# Altium footprint library PcbLib1.PcbLib: 218 footprints (part 5 of 14)
Each footprint in its own frame and in the unit in brackets; x right, y up, seen from the top. Pads: shape width x height; smd on the part's side, far side on the other; paste and mask are expansions set on the pad; w line width, h text height; cw(c..) or ccw(c..) is an arc to the next point about the centre after c.
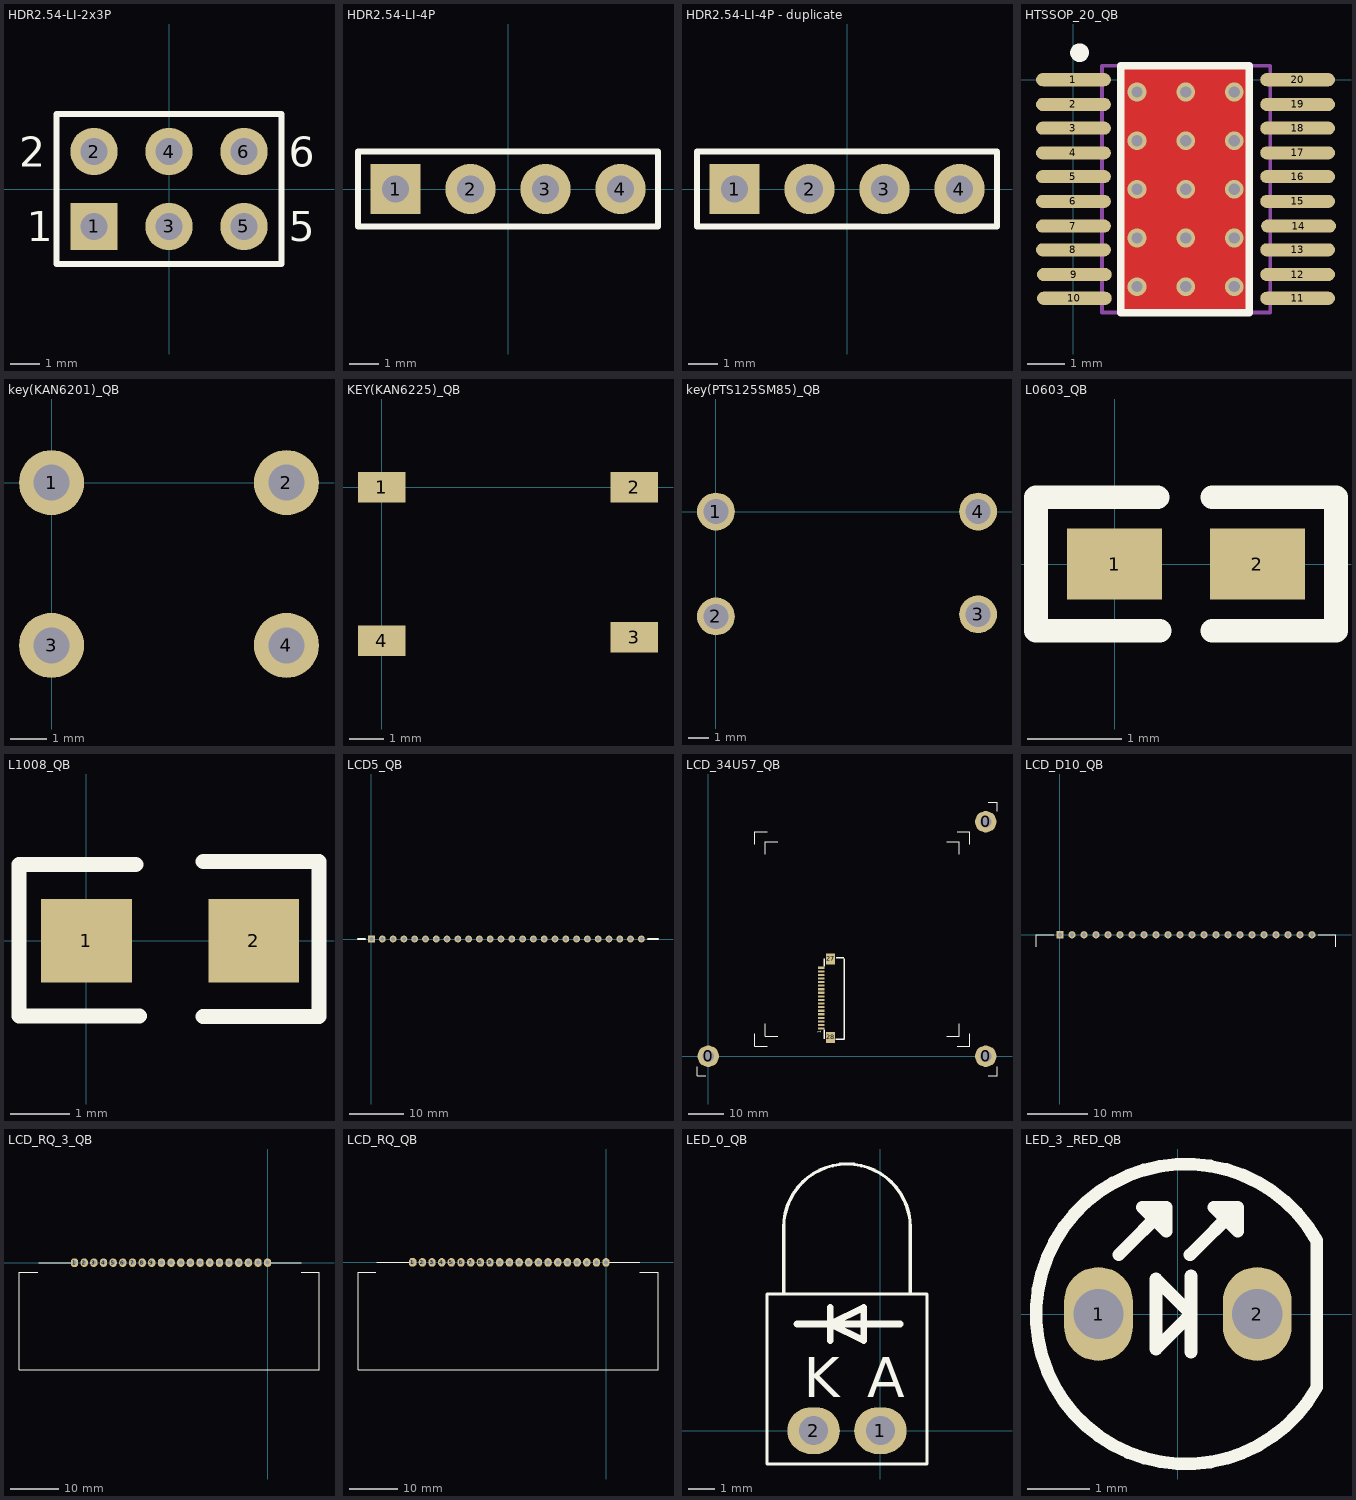
[diagram p4: the footprints below, top view; thin cyan lines are the x and y axes]

## HDR2.54-LI-2x3P [mm] "双排排针，3x2脚"
pads (6):
  rect 1.6x1.6 hole 0.9: 1(-2.54,-1.27)
  round 1.6 hole 0.9: 2(-2.54,1.27) 3(0,-1.27) 4(0,1.27) 5(2.54,-1.27) 6(2.54,1.27)
Top Overlay:
  lines w0.2: -1.058,-2.54 3.81,-2.54 ; 3.81,-2.54 3.81,2.54 -3.81,2.54 -3.81,-2.54 3.81,-2.54
  text "6" at 4.064,0.762 h1.02
  text "5" at 4.064,-1.778 h1.02
  text "2" at -5.08,0.762 h1.02
  text "1" at -4.826,-1.778 h1.02
3D body "HDR2.54-1x2P.STEP": height 8.5, standoff -3, extent 1.27,-2.54 3.81,2.54
3D body "HDR2.54-1x2P.STEP": height 8.5, standoff -3, extent -3.81,-2.54 -1.27,2.54
3D body "HDR2.54-1x2P.STEP": height 8.5, standoff -3, extent -1.27,-2.54 1.27,2.54

## HDR2.54-LI-4P [mm] "排针，4脚"
pads (4):
  rect 1.7x1.7 hole 0.9: 1(-3.81,0)
  round 1.7 hole 0.9: 2(-1.27,0) 3(1.27,0) 4(3.81,0)
Top Overlay:
  lines w0.2: -5.08,-1.27 -5.08,1.27 5.08,1.27 5.08,-1.27 -5.08,-1.27
3D body "HDR2.54-1P.STEP": height 8.5, standoff -3, extent -5.08,-1.27 -2.54,1.27
3D body "HDR2.54-1P.STEP": height 8.5, standoff -3, extent -2.54,-1.27 0,1.27
3D body "HDR2.54-1P.STEP": height 8.5, standoff -3, extent 0,-1.27 2.54,1.27
3D body "HDR2.54-1P.STEP": height 8.5, standoff -3, extent 2.54,-1.27 5.08,1.27

## HDR2.54-LI-4P - duplicate [mm] "排针，4脚"
pads (4):
  rect 1.7x1.7 hole 0.9: 1(-3.81,0)
  round 1.7 hole 0.9: 2(-1.27,0) 3(1.27,0) 4(3.81,0)
Top Overlay:
  lines w0.2: -5.08,-1.27 -5.08,1.27 5.08,1.27 5.08,-1.27 -5.08,-1.27
3D body "HDR2.54-1P.STEP": height 8.5, standoff -3, extent -5.08,-1.27 -2.54,1.27
3D body "HDR2.54-1P.STEP": height 8.5, standoff -3, extent -2.54,-1.27 0,1.27
3D body "HDR2.54-1P.STEP": height 8.5, standoff -3, extent 0,-1.27 2.54,1.27
3D body "HDR2.54-1P.STEP": height 8.5, standoff -3, extent 2.54,-1.27 5.08,1.27

## HTSSOP_20_QB [mm]
height 1.2
pads (20):
  oval 2x0.35 smd: 1(0,0) 2(0,-0.66) 3(0,-1.295) 4(0,-1.956) 5(0,-2.591) 6(0,-3.251) 7(0,-3.912) 8(0,-4.547) 9(0.025,-5.207) 10(0.025,-5.842) 11(5.994,-5.842) 12(5.994,-5.207) 13(5.994,-4.547) 14(6.02,-3.912) 15(5.994,-3.251) 16(5.994,-2.591) 17(5.994,-1.956) 18(5.994,-1.295) 19(5.994,-0.66) 20(5.994,0)
via 1.702,-0.33 diameter 0.5 hole 0.3
via 1.702,-5.53 diameter 0.5 hole 0.3
via 4.302,-5.53 diameter 0.5 hole 0.3
via 4.302,-4.23 diameter 0.5 hole 0.3
via 4.302,-2.93 diameter 0.5 hole 0.3
via 4.302,-1.63 diameter 0.5 hole 0.3
via 4.302,-0.33 diameter 0.5 hole 0.3
via 3.002,-5.53 diameter 0.5 hole 0.3
via 3.002,-4.23 diameter 0.5 hole 0.3
via 3.002,-2.93 diameter 0.5 hole 0.3
via 3.002,-1.63 diameter 0.5 hole 0.3
via 3.002,-0.33 diameter 0.5 hole 0.3
via 1.702,-4.23 diameter 0.5 hole 0.3
via 1.702,-2.93 diameter 0.5 hole 0.3
via 1.702,-1.63 diameter 0.5 hole 0.3
Top Layer:
  region: 1.31,0.33 1.31,-6.17 4.71,-6.17 4.71,0.33
Top Overlay:
  circle w0.25: c0.164,0.725 r0.125
  lines w0.2: 1.27,-6.225 4.699,-6.225 4.699,0.375 1.27,0.375 1.27,-6.225
Mechanical 13:
  circle w0.1: c1.714,-0.575 r0.5
  lines w0.1: 0.764,-6.225 5.264,-6.225 5.264,0.375 0.764,0.375 0.764,-6.225
Mechanical 15:
  lines w0.1: 2.514,-3.13 3.514,-3.13 ; 2.802,-3.425 2.802,-2.425
3D body: height 0.5, standoff 0, extent 4.855,-0.156 6.1,0.148
3D body: height 0.5, standoff 0, extent 4.855,-0.791 6.1,-0.487
3D body: height 0.5, standoff 0, extent 4.855,-1.452 6.1,-1.147
3D body: height 0.5, standoff 0, extent 4.855,-2.112 6.1,-1.807
3D body: height 0.5, standoff 0, extent 4.855,-2.747 6.1,-2.442
3D body: height 0.5, standoff 0, extent 4.881,-3.408 6.125,-3.103
3D body: height 0.5, standoff 0, extent 4.855,-4.043 6.1,-3.738
3D body: height 0.5, standoff 0, extent 4.855,-4.703 6.1,-4.398
3D body: height 0.5, standoff 0, extent 4.855,-5.338 6.1,-5.033
3D body: height 0.5, standoff 0, extent 4.855,-5.998 6.1,-5.694
3D body: height 0.5, standoff 0, extent -0.072,-5.998 1.172,-5.693
3D body: height 0.5, standoff 0, extent -0.072,-5.363 1.172,-5.059
3D body: height 0.5, standoff 0, extent -0.072,-4.703 1.172,-4.398
3D body: height 0.5, standoff 0, extent -0.072,-4.042 1.172,-3.738
3D body: height 0.5, standoff 0, extent -0.098,-3.382 1.147,-3.077
3D body: height 0.5, standoff 0, extent -0.072,-2.747 1.172,-2.442
3D body: height 0.5, standoff 0, extent -0.072,-2.087 1.172,-1.782
3D body: height 0.5, standoff 0, extent -0.098,-1.452 1.147,-1.147
3D body: height 0.5, standoff 0, extent -0.123,-0.791 1.121,-0.487
3D body: height 0.5, standoff 0, extent -0.123,-0.156 1.121,0.148
3D body: height 1.2, standoff 0.1, extent 0.764,-6.225 5.264,0.375

## key(KAN6201)_QB [mm]
pads (4):
  round 1.8 hole 1: 1(0,0) 2(6.5,0) 3(0,-4.5) 4(6.5,-4.5)
3D body: height 9, standoff 3.5, extent 1.542,-3.965 5.028,-0.472
3D body: height 3.5, standoff 0, extent 0.163,-5.34 6.171,0.671

## KEY(KAN6225)_QB [mm]
pads (4):
  rect 1.4x0.9 smd: 1(0,0) 2(7.4,0) 3(7.4,-4.4) 4(0,-4.5)
3D body: height 2, standoff 0, extent 0.6,-5.3 6.8,0.7
3D body: height 3.1, standoff 0, extent 2.704,-3.096 4.696,-1.1

## key(PTS125SM85)_QB [mm]
pads (4):
  round 1.8 hole 1.2: 1(0,0) 2(0,-5) 3(12.5,-4.9) 4(12.5,0)
3D body: height 3.5, standoff 0, extent 0.332,-8.7 12.268,3.2
3D body: height 8.5, standoff 3.5, extent 2.914,-6.4 9.886,0.586

## L0603_QB [mil]
pads (2):
  rect 40x30 smd: 1(0,0) 2(60,0)
Top Overlay:
  lines w10: 18,28 -33,28 -33,-28 19,-28 ; 41,-28 93,-28 93,28 41,28
3D body: height 35.04, standoff 0, extent -1.9,-16.6 61.9,16.8

## L1008_QB [mm]
pads (2):
  rect 1.52x1.4 smd: 1(0,0) 2(2.8,0)
Top Overlay:
  lines w0.254: 0.826,1.275 -1.128,1.275 -1.128,-1.262 0.889,-1.262 ; 1.951,-1.27 3.891,-1.27 3.891,1.323 1.953,1.323
3D body: height 1.8, standoff 0, extent 0.114,-0.947 2.728,0.988

## LCD5_QB [mil]
height 35.43
pads (26):
  rect 50x50 hole 28: 1(0,0.25)
  round 50 hole 28: 2(78.74,0.25) 3(157.48,0.25) 4(236.22,0.25) 5(314.96,0.25) 6(393.7,0.25) 7(472.44,0.25) 8(551.18,0.25) 9(629.92,0.25) 10(708.66,0.25) 11(787.4,0.25) 12(866.14,0.25) 13(944.88,0.25) 14(1023.62,0.25) 15(1102.36,0.25) 16(1181.1,0.25) 17(1259.84,0.25) 18(1338.58,0.25) 19(1417.32,0.25) 20(1496.06,0.25) 21(1574.8,0.25) 22(1653.54,0.25) 23(1732.28,0.25) 24(1811.02,0.25) 25(1889.76,0.25) 26(1968.5,0.25)
Top Overlay:
  lines w11.81: -98.36,0.23 -45,0.25 ; 2015,0 2090,0
3D body: height 299.21, standoff -102.36, extent 1958.66,-5.65 1978.35,6.16
3D body: height 299.21, standoff -102.36, extent 1879.92,-5.65 1899.61,6.16
3D body: height 299.21, standoff -102.36, extent 1801.18,-5.65 1820.87,6.16
3D body: height 299.21, standoff -102.36, extent 1722.44,-5.65 1742.13,6.16
3D body: height 299.21, standoff -102.36, extent 1643.7,-5.65 1663.39,6.16
3D body: height 299.21, standoff -102.36, extent 1564.96,-5.65 1584.65,6.16
3D body: height 299.21, standoff -102.36, extent 1486.22,-5.65 1505.91,6.16
3D body: height 299.21, standoff -102.36, extent 1407.48,-5.65 1427.17,6.16
3D body: height 299.21, standoff -102.36, extent 1328.74,-5.65 1348.43,6.16
3D body: height 299.21, standoff -102.36, extent 1250,-5.65 1269.69,6.16
3D body: height 299.21, standoff -102.36, extent 1171.26,-5.65 1190.95,6.16
3D body: height 299.21, standoff -102.36, extent 1092.52,-5.65 1112.21,6.16
3D body: height 299.21, standoff -102.36, extent 1013.78,-5.65 1033.47,6.16
3D body: height 299.21, standoff -102.36, extent 935.04,-5.65 954.73,6.16
3D body: height 299.21, standoff -102.36, extent 856.3,-5.65 875.99,6.16
3D body: height 299.21, standoff -102.36, extent 777.56,-5.65 797.25,6.16
3D body: height 299.21, standoff -102.36, extent 698.82,-5.65 718.51,6.16
3D body: height 299.21, standoff -102.36, extent 620.08,-5.65 639.77,6.16
3D body: height 299.21, standoff -102.36, extent 541.34,-5.65 561.03,6.16
3D body: height 299.21, standoff -102.36, extent 462.6,-5.65 482.29,6.16
3D body: height 299.21, standoff -102.36, extent 383.86,-5.65 403.55,6.16
3D body: height 299.21, standoff -102.36, extent 305.12,-5.65 324.81,6.16
3D body: height 299.21, standoff -102.36, extent 226.38,-5.65 246.07,6.16
3D body: height 299.21, standoff -102.36, extent 147.64,-5.65 167.33,6.16
3D body: height 299.21, standoff -102.36, extent 68.9,-5.65 88.59,6.16
3D body: height 299.21, standoff -102.36, extent -9.84,-5.65 9.85,6.16
3D body: height 307.09, standoff 196.85, extent -190,-1070 2165,0
3D body: height 307.09, standoff 196.85, extent -27.56,-26.57 1992.65,28.61

## LCD_34U57_QB [mm]
pads (23):
  round 6 hole 3.2: 0(0,0) 0(77.5,0) 0(77.5,65.5)
  rect 1.8x0.6 smd: 1(31.506,7.716) 2(31.506,8.716) 3(31.506,9.716) 4(31.506,10.716) 5(31.506,11.716) 6(31.506,12.716) 7(31.506,13.716) 8(31.506,14.716) 9(31.506,15.716) 10(31.506,16.716) 11(31.506,17.716) 12(31.506,18.716) 13(31.506,19.716) 14(31.506,20.716) 15(31.506,21.716) 16(31.506,22.716) 17(31.506,23.716) 18(31.506,24.716)
  rect 2.5x3.048 smd: 27(34.156,27.166) 28(34.156,5.266)
Top Overlay:
  lines w0.254: -3.15,-3 -3.15,-5.5 -0.65,-5.5 ; 13,6.25 13,2.75 16.5,2.75 ; 13,59.25 13,62.75 16.5,62.75 ; 15.85,9.1 15.85,5.6 19.35,5.6 ; 15.85,56.4 15.85,59.9 19.35,59.9 ; 66.65,5.6 70.15,5.6 70.15,9.1 ; 66.65,59.9 70.15,59.9 70.15,56.4 ; 69.5,2.75 73,2.75 73,6.25 ; 69.5,62.75 73,62.75 73,59.25 ; 78.15,-5.5 80.65,-5.5 80.65,-3 ; 78.15,71 80.65,71 80.65,68.5
  lines w0.381: 32.395,4.922 32.395,7.335 ; 32.395,25.115 32.395,27.274 ; 35.57,4.795 37.983,4.795 37.983,27.274 ; 35.697,27.528 37.856,27.528
  text "1" at 31.489,6.437 h0.89

## LCD_D10_QB [mm]
height 10
pads (22):
  rect 1.2x1.2 hole 0.7: 1(0,0)
  round 1.2 hole 0.7: 2(2,0) 3(4,0) 4(6,0) 5(8,0) 6(10,0) 7(12,0) 8(14,0) 9(16,0) 10(18,0) 11(20,0) 12(22,0) 13(24,0) 14(26,0) 15(28,0) 16(30,0) 17(32,0) 18(34,0) 19(36,0) 20(38,0) 21(40,0) 22(42,0)
Top Overlay:
  lines w0.1: -4,-2 -4,0 -1,0 ; 43,0 46,0 46,-2
3D body: height 5, standoff -5, extent -0.25,-0.15 0.25,0.15
3D body: height 5, standoff -5, extent 1.75,-0.15 2.25,0.15
3D body: height 5, standoff -5, extent 3.75,-0.15 4.25,0.15
3D body: height 5, standoff -5, extent 5.75,-0.15 6.25,0.15
3D body: height 5, standoff -5, extent 7.75,-0.15 8.25,0.15
3D body: height 5, standoff -5, extent 9.75,-0.15 10.25,0.15
3D body: height 5, standoff -5, extent 11.75,-0.15 12.25,0.15
3D body: height 5, standoff -5, extent 13.75,-0.15 14.25,0.15
3D body: height 5, standoff -5, extent 15.75,-0.15 16.25,0.15
3D body: height 5, standoff -5, extent 17.75,-0.15 18.25,0.15
3D body: height 5, standoff -5, extent 19.75,-0.15 20.25,0.15
3D body: height 5, standoff -5, extent 21.75,-0.15 22.25,0.15
3D body: height 5, standoff -5, extent 23.75,-0.15 24.25,0.15
3D body: height 5, standoff -5, extent 25.75,-0.15 26.25,0.15
3D body: height 5, standoff -5, extent 27.75,-0.15 28.25,0.15
3D body: height 5, standoff -5, extent 29.75,-0.15 30.25,0.15
3D body: height 5, standoff -5, extent 31.75,-0.15 32.25,0.15
3D body: height 5, standoff -5, extent 33.75,-0.15 34.25,0.15
3D body: height 5, standoff -5, extent 35.75,-0.15 36.25,0.15
3D body: height 5, standoff -5, extent 37.75,-0.15 38.25,0.15
3D body: height 5, standoff -5, extent 39.75,-0.15 40.25,0.15
3D body: height 6, standoff 3.2, extent -0.702,-0.702 42.702,0.702
3D body: height 6, standoff 3.2, extent -4,-20 45.999,-0.001
3D body: height 5, standoff -5, extent 41.75,-0.15 42.25,0.15

## LCD_RQ_3_QB [mil]
pads (21):
  oct 60x70 hole 32: 1(-1574.8,0)
  oval 60x70 hole 32: 2(-1495.8,0) 3(-1416.8,0) 4(-1337.8,0) 5(-1259.8,0) 6(-1180.8,0) 7(-1101.8,0) 8(-1022.8,0) 9(-944.8,0) 10(-865.8,0) 11(-786.8,0) 12(-707.8,0) 13(-629.8,0) 14(-550.8,0) 15(-471.8,0) 16(-392.8,0) 17(-314.8,0) 18(-234.8,0) 19(-156.8,0) 20(-77.8,0) 21(0,0)
Top Overlay:
  lines w10: -1874.8,-78.74 -2027.56,-78.74 -2027.56,-872.05 419.29,-872.05 419.29,-78.74 273.74,-78.74 ; -1866.8,0 -1574.8,0 ; 0,0 276.2,0
3D body: height 157.48, standoff 39.37, extent -1992.13,-871.13 413.39,-8.79
3D body: height 157.48, standoff -39.37, extent -1584.65,-5.91 -1564.96,5.91
3D body: height 157.48, standoff -39.37, extent -1505.91,-5.91 -1486.22,5.91
3D body: height 157.48, standoff -39.37, extent -1427.17,-5.91 -1407.48,5.91
3D body: height 157.48, standoff -39.37, extent -1348.43,-5.91 -1328.74,5.91
3D body: height 157.48, standoff -39.37, extent -1269.68,-5.91 -1250,5.91
3D body: height 157.48, standoff -39.37, extent -1190.94,-5.91 -1171.26,5.91
3D body: height 157.48, standoff -39.37, extent -1112.2,-5.91 -1092.52,5.91
3D body: height 157.48, standoff -39.37, extent -1033.46,-5.91 -1013.78,5.91
3D body: height 157.48, standoff -39.37, extent -954.72,-5.91 -935.04,5.91
3D body: height 157.48, standoff -39.37, extent -875.98,-5.91 -856.3,5.91
3D body: height 157.48, standoff -39.37, extent -797.24,-5.91 -777.56,5.91
3D body: height 157.48, standoff -39.37, extent -718.5,-5.91 -698.82,5.91
3D body: height 157.48, standoff -39.37, extent -639.76,-5.91 -620.08,5.91
3D body: height 157.48, standoff -39.37, extent -561.02,-5.91 -541.34,5.91
3D body: height 157.48, standoff -39.37, extent -482.28,-5.91 -462.6,5.91
3D body: height 157.48, standoff -39.37, extent -403.54,-5.91 -383.86,5.91
3D body: height 157.48, standoff -39.37, extent -324.8,-5.91 -305.12,5.91
3D body: height 157.48, standoff -39.37, extent -246.06,-5.91 -226.38,5.91
3D body: height 157.48, standoff -39.37, extent -167.32,-5.91 -147.64,5.91
3D body: height 157.48, standoff -39.37, extent -88.58,-5.91 -68.9,5.91
3D body: height 157.48, standoff -39.37, extent -9.84,-5.91 9.84,5.91
3D body: height 157.48, standoff 39.37, extent -1608.33,-29.1 37.4,26.15

## LCD_RQ_QB [mil]
pads (21):
  oct 60x70 hole 32: 1(-1574.8,0)
  oval 60x70 hole 32: 2(-1495.8,0) 3(-1416.8,0) 4(-1337.8,0) 5(-1259.8,0) 6(-1180.8,0) 7(-1101.8,0) 8(-1022.8,0) 9(-944.8,0) 10(-865.8,0) 11(-786.8,0) 12(-707.8,0) 13(-629.8,0) 14(-550.8,0) 15(-471.8,0) 16(-392.8,0) 17(-314.8,0) 18(-234.8,0) 19(-156.8,0) 20(-77.8,0) 21(0,0)
Top Overlay:
  lines w10: -1874.8,-78.74 -2019.68,-78.74 -2019.68,-875 423.23,-875 423.23,-78.74 273.74,-78.74 ; -1866.8,0 -1574.8,0 ; 0,0 276.2,0
3D body: height 748.03, standoff 629.92, extent -2021.65,-621.06 -1987.2,-341.54
3D body: height 748.03, standoff 629.92, extent -1988.19,-872.18 417.32,-9.84
3D body: height 748.03, standoff 629.92, extent -1602.43,-27.62 43.31,27.62
3D body: height 708.66, standoff -196.85, extent -9.84,-5.91 9.84,5.91
3D body: height 708.66, standoff -196.85, extent -88.58,-5.91 -68.9,5.91
3D body: height 708.66, standoff -196.85, extent -167.32,-5.91 -147.64,5.91
3D body: height 708.66, standoff -196.85, extent -246.06,-5.91 -226.38,5.91
3D body: height 708.66, standoff -196.85, extent -324.8,-5.91 -305.12,5.91
3D body: height 708.66, standoff -196.85, extent -403.54,-5.91 -383.86,5.91
3D body: height 708.66, standoff -196.85, extent -482.28,-5.91 -462.6,5.91
3D body: height 708.66, standoff -196.85, extent -561.02,-5.91 -541.34,5.91
3D body: height 708.66, standoff -196.85, extent -639.76,-5.91 -620.08,5.91
3D body: height 708.66, standoff -196.85, extent -718.5,-5.91 -698.82,5.91
3D body: height 708.66, standoff -196.85, extent -797.24,-5.91 -777.56,5.91
3D body: height 708.66, standoff -196.85, extent -875.98,-5.91 -856.3,5.91
3D body: height 708.66, standoff -196.85, extent -954.72,-5.91 -935.04,5.91
3D body: height 708.66, standoff -196.85, extent -1033.46,-5.91 -1013.78,5.91
3D body: height 708.66, standoff -196.85, extent -1112.2,-5.91 -1092.52,5.91
3D body: height 708.66, standoff -196.85, extent -1190.94,-5.91 -1171.26,5.91
3D body: height 708.66, standoff -196.85, extent -1269.68,-5.91 -1250,5.91
3D body: height 708.66, standoff -196.85, extent -1348.43,-5.91 -1328.74,5.91
3D body: height 708.66, standoff -196.85, extent -1427.17,-5.91 -1407.48,5.91
3D body: height 708.66, standoff -196.85, extent -1505.91,-5.91 -1486.22,5.91
3D body: height 708.66, standoff -196.85, extent -1584.65,-5.91 -1564.96,5.91

## LED_0_QB [mm] "LED"
pads (2):
  oval 2x1.778 hole 1.1: 1(0,0) 2(-2.54,0)
Top Overlay:
  lines w0.127: -3.683,5.207 -3.683,7.747 cw(c-1.27,7.747) 1.143,7.747 1.143,5.207 ; -4.318,-1.27 1.778,-1.27 1.778,5.207 -4.318,5.207 -4.318,-1.27
  lines w0.254: -3.175,4.064 0.762,4.064 ; -1.905,3.429 -1.905,4.699 ; -1.905,4.064 -0.635,4.699 -0.635,3.429 -1.905,4.064
  text "A" at -0.508,1.27 h1.52
  text "K" at -2.921,1.27 h1.52
3D body: height 2, standoff -2.6, extent -0.397,-0.399 0.4,0.399
3D body: height 2, standoff -2.6, extent -2.937,-0.399 -2.14,0.399
3D body: height 4, standoff 0, extent -3.223,6.188 0.756,10.17
3D body: height 4, standoff 0, extent -3.237,1.219 0.747,8.419
3D body: height 2.4, standoff 1.6, extent -2.939,-0.374 -2.141,1.626
3D body: height 2.4, standoff 1.6, extent -0.417,-0.39 0.381,1.61

## LED_3 _RED_QB [mm]
pads (2):
  oval 1.1x1.5 hole 0.8: 1(-1.27,0) 2(1.27,0)
Top Overlay:
  lines w0.2: 2.22,-1.171 2.22,1.18
  lines w0.203: -0.948,0.946 -0.186,1.708 ; 0.195,0.946 0.957,1.708 ; 0.209,-0.61 0.209,0.61 ; 2.22,1.18 ccw(c0.13,0) 2.223,-1.174 ; -0.186,1.708 -0.567,1.708 -0.186,1.327 -0.186,1.708 ; 0.957,1.708 0.957,1.327 0.576,1.708 0.957,1.708 ; -0.349,-0.559 0.209,0 -0.349,0.559 -0.349,-0.559
3D body: height 9, standoff 5, extent -1.686,-1.646 1.7,1.747
3D body: height 10.5, standoff 7.5, extent -1.492,-1.462 1.492,1.525
3D body: height 1.4, standoff -6.6, extent -1.518,-0.249 -1.02,0.25
3D body: height 1.4, standoff -6.6, extent 1.026,-0.245 1.524,0.254